# EAGLE library part DW01A (library DW01A)
Check availability <https://pricing.snapeda.com/parts/DW01A/Fortune%20Semiconductor/view-part?ref=eda>
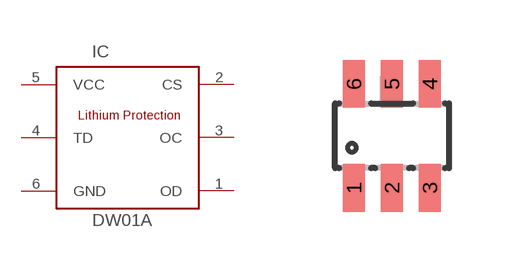
[diagram p0: symbol with the pads of SOT23-6; footprint SOT23-6]

Designator prefix IC

## DW01A (Availability: Not in stock; Description: One Cell Lithium-ion/Polymer Battery Protection IC; MF: Fortune Semiconductor; MP: DW01A; Package: SOT-23-6 Fortune Semiconductor; Price: None)  [SOT23-6]
1  OD
2  CS
3  OC
4  TD
5  VCC  pwr
6  GND  pwr

## Footprint SOT23-6 (pad centres in mm)
smd 0.55 x 1.2: 1 -0.95,-1.3; 2 0,-1.3; 3 0.95,-1.3; 4 0.95,1.3; 5 0,1.3; 6 -0.95,1.3